# Altium schematic symbol library HX0201800000G.SchLib: 1 symbol
Pins are listed as number, name and electrical type; pins without a type are passive.

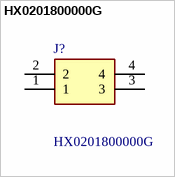
[diagram p0: symbol HX0201800000G]

## HX0201800000G
designator J?
Fixed Terminal Blocks TB SPRING CLAMP 180D; Manufacturer_Name: Amphenol; Geometry.Height: 12.8mm; Mouser Part Number: 649-HX02018000J0G; Mouser Price/Stock: https://www.mouser.co.uk/ProductDetail/Amphenol-Anytek/HX0201800000G?qs=Mv7BduZupUjWRzKlnc0xpw%3D%3D; Manufacturer_Part_Number: HX0201800000G; Datasheet Link: *
footprint HX0201800000G
pins: 1, 2, 3, 4